# EAGLE library part MICROSD_CARD_POLLIN (library 000_eigene_Bauteile)
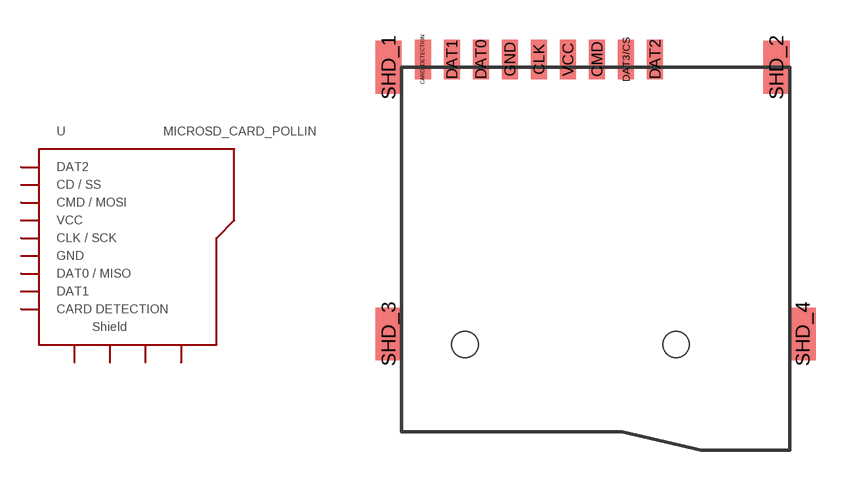
[diagram p7: symbol with the pads of MR**-AP*03**; footprint MR**-AP*03**]

Designator prefix -

## MICROSD_CARD_POLLIN  [MR**-AP*03**]
CARD_DETECTION  CARD_D
CLK  CLK/SCK
CMD  CMD/MOSI
DAT0  DAT0/MISO
DAT1  DAT1
DAT2  DAT2
DAT3/CS  CD/SS
GND  GND
SHD_1  SHD1
SHD_2  SHD2
SHD_3  SHD3
SHD_4  SHD4
VCC  VCC

## Footprint MR**-AP*03** (pad centres in mm)
smd 0.6 x 1.5: CARD_DETECTION -6.55,0.3; CLK -2.15,0.3; CMD 0.05,0.3; DAT0 -4.35,0.3; DAT1 -5.45,0.3; DAT2 2.25,0.3; DAT3/CS 1.15,0.3; GND -3.25,0.3; VCC -1.05,0.3
smd 1 x 2: SHD_1 -7.85,0; SHD_2 6.85,0; SHD_3 -7.85,-10.1; SHD_4 7.85,-10.1
hole 1 at -4.95,-10.5
hole 1 at 3.05,-10.5